# Altium schematic symbol library BasicEle.SchLib: 54 symbols
Pins are listed as number, name and electrical type; pins without a type are passive.

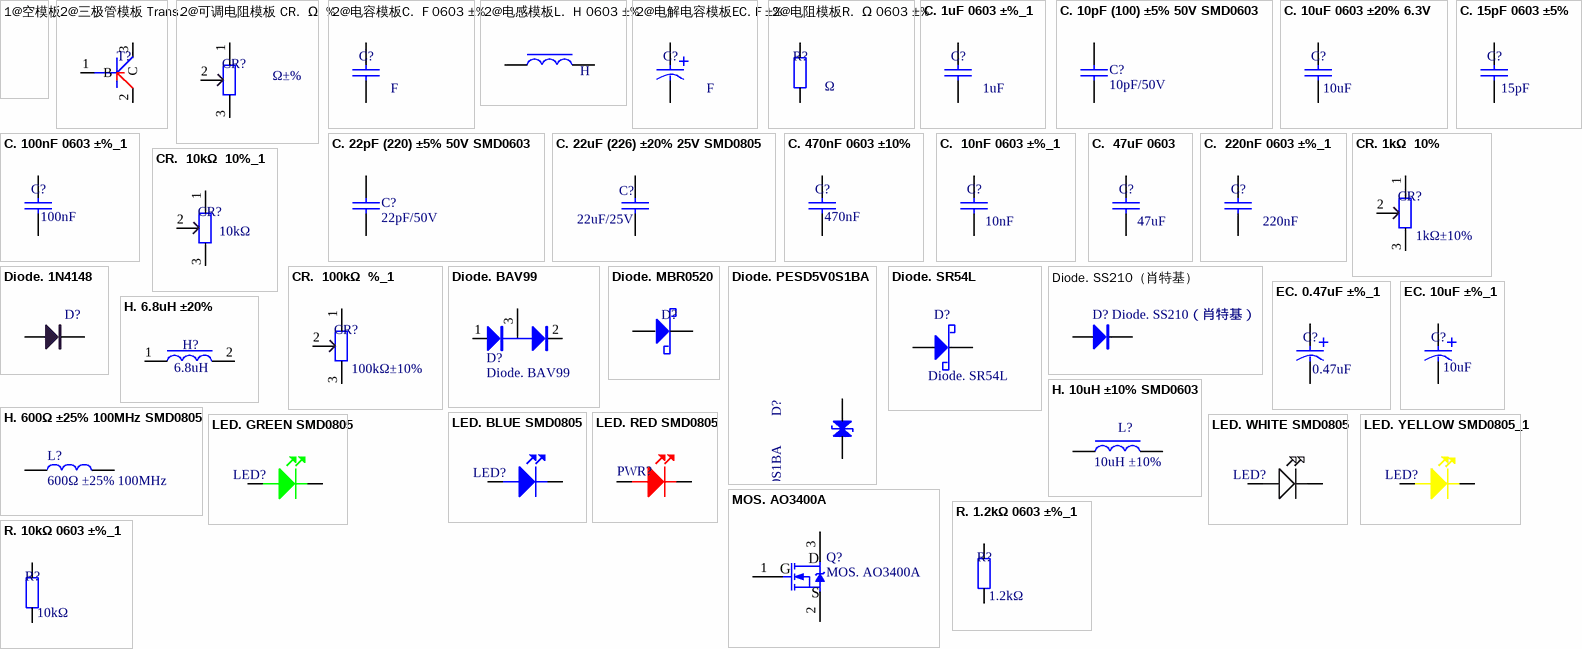
[diagram p0: symbols 1@空模板 to R. 10kΩ 0603 ±%_1]

## 1@空模板
designator ?  (value not drawn)
A.元件编号: *; B.元件名称: *; C.元件类型: *; D.元件型号: *; E.封装规格: *; F.阻值(Ω)/容值(μF): *; G.电压: *; H.精度: *; I.焊盘数量: *; J.品牌产地: *; 单价/元: *; 原创: *; 备注: *

## 2@三极管模板 Trans.
designator T?, comment Trans.  (value not drawn)
A.元件编号: *; B.元件名称: *; C.元件类型: *; D.元件型号: *; E.封装规格: *; F.阻值(Ω)/容值(μF): *; G.电压: *; H.精度: *; I.焊盘数量: *; J.品牌产地: *; 单价/元: *; 原创: *; 备注: *
pins: 1 B, 2 E, 3 C

## 2@可调电阻模板 CR.  Ω  %
designator CR?  value Ω±%  (hidden comment: 2@可调电阻模板 CR.  Ω  %)
A.元件编号: *; B.元件名称: *; C.元件类型: *; D.元件型号: *; E.封装规格: *; F.阻值(Ω)/容值(μF): *; G.电压: *; H.精度: *; I.焊盘数量: *; J.品牌产地: *; 单价/元: *; 原创: *; 备注: *
pins: 1, 2, 3

## 2@电容模板C.  F 0603 ±%
designator C?, comment value F  (hidden comment: 2@电容模板 F 0603 ±%)
A.元件编号: *; B.元件名称: *; C.元件类型: *; D.元件型号: *; E.封装规格: *; F.阻值(Ω)/容值(μF): *; G.电压: *; H.精度: *; I.焊盘数量: *; J.品牌产地: *; 单价/元: *; 原创: *; 备注: *
footprint C 0603
pins: 1, 2

## 2@电感模板L.  H 0603 ±%
designator ?  value H
A.元件编号: *; B.元件名称: *; C.元件类型: *; D.元件型号: *; E.封装规格: *; F.阻值(Ω)/容值(μF): *; G.电压: *; H.精度: *; I.焊盘数量: *; J.品牌产地: *; 单价/元: *; 原创: *; 备注: *
footprint L 0603
pins: 1, 2

## 2@电解电容模板EC. F ±%
designator C?, comment value F  (hidden comment: 2@电解电容模板 F ±%)
A.元件编号: *; B.元件名称: *; C.元件类型: *; D.元件型号: *; E.封装规格: *; F.阻值(Ω)/容值(μF): *; G.电压: *; H.精度: *; I.焊盘数量: *; J.品牌产地: *; 单价/元: *; 原创: *; 备注: *
footprint SMD 4x5.3mm 0.47uf
footprint SMD 4x5.7mm 10uf
pins: 1, 2

## 2@电阻模板R.  Ω 0603 ±%
designator R?  value Ω
A.元件编号: *; B.元件名称: *; C.元件类型: *; D.元件型号: *; E.封装规格: *; F.阻值(Ω)/容值(μF): *; G.电压: *; H.精度: *; I.焊盘数量: *; J.品牌产地: *; 单价/元: *; 原创: *; 备注: *
footprint R 0603
pins: 1, 2

## C. 1uF 0603 ±%_1
designator C?  value 1uF  (hidden comment: C. 1uF 0603 ±%_1)
A.元件编号: *; B.元件名称: *; C.元件类型: *; D.元件型号: *; E.封装规格: *; F.阻值(Ω)/容值(μF): *; G.电压: *; H.精度: *; I.焊盘数量: *; J.品牌产地: *; 单价/元: *; 原创: *; 备注: *
footprint C 0603
pins: 1, 2

## C. 10pF (100) ±5% 50V SMD0603
designator C?  value 10pF/50V  (hidden comment: C. 10pF (100) ±5% 50V SMD0603)
贴片电容，10pF/50V，±5%，SMD0603，SAMSUNG(三星)，CL10C100JB8NNNC; A.元件编号: C1634; C.元件类别: 贴片电容; E.封装规格: 0603; F.阻值(Ω)/容值(uF): 0.0000100000; G.电压: 50.00; I.焊盘数量: 2; 备注: 立创可贴片元器件; 单价/元（大批量）: 0.0066; B.元件名称: 10pF (100) ±5% 50V; D.元件型号: CL10C100JB8NNNC; H.精度: ±5%; J.品牌产地: SAMSUNG(三星)
footprint C 0603 (无极性贴片电容)
pins: 1, 2

## C. 10uF 0603 ±20% 6.3V
designator C?  value 10uF  (hidden comment: C. 10uF 0603 ±20% 6.3V)
A.元件编号: *; B.元件名称: *; C.元件类型: *; D.元件型号: *; E.封装规格: *; F.阻值(Ω)/容值(μF): *; G.电压: *; H.精度: *; I.焊盘数量: *; J.品牌产地: *; 单价/元: *; 原创: *; 备注: *
footprint C 0603
pins: 1, 2

## C. 15pF 0603 ±5%
designator C?  value 15pF  (hidden comment: C. 15pF 0603 ±5%)
A.元件编号: *; B.元件名称: *; C.元件类型: *; D.元件型号: *; E.封装规格: *; F.阻值(Ω)/容值(μF): *; G.电压: *; H.精度: *; I.焊盘数量: *; J.品牌产地: *; 单价/元: *; 原创: *; 备注: *
footprint C 0603
pins: 1, 2

## C. 22pF (220) ±5% 50V SMD0603
designator C?  value 22pF/50V  (hidden comment: C. 22pF (220) ±5% 50V SMD0603)
贴片电容，22pF/50V，±5%，SMD0603，SAMSUNG(三星)，CL10C220JB8NNNC; A.元件编号: C1653; C.元件类别: 贴片电容; E.封装规格: 0603; F.阻值(Ω)/容值(uF): 0.0000220000; G.电压: 50.00; I.焊盘数量: 2; 备注: 立创可贴片元器件; 单价/元（大批量）: 0.0067; B.元件名称: 22pF (220) ±5% 50V; D.元件型号: CL10C220JB8NNNC; H.精度: ±5%; J.品牌产地: SAMSUNG(三星)
footprint C 0603 (无极性贴片电容)
pins: 1, 2

## C. 22uF (226) ±20% 25V SMD0805
designator C?  value 22uF/25V  (hidden comment: C. 22uF (226) ±20% 25V SMD0805)
贴片电容，22uF/25V，±20%，SMD0805，SAMSUNG(三星)，CL21A226MAQNNNE; A.元件编号: C45783; C.元件类别: 贴片电容; E.封装规格: 0805; F.阻值(Ω)/容值(uF): 22.0000000000; G.电压: 25.00; I.焊盘数量: 2; 备注: 立创可贴片元器件; 单价/元（大批量）: 0.134; B.元件名称: 22uF (226) ±20% 25V; D.元件型号: CL21A226MAQNNNE; H.精度: ±20%; J.品牌产地: SAMSUNG(三星)
footprint C 0805 (无极性贴片电容)
pins: 1, 2

## C. 100nF 0603 ±%_1
designator C?, comment value 100nF  (hidden comment: 100nF 0603 ±%_1)
A.元件编号: *; B.元件名称: *; C.元件类型: *; D.元件型号: *; E.封装规格: *; F.阻值(Ω)/容值(μF): *; G.电压: *; H.精度: *; I.焊盘数量: *; J.品牌产地: *; 单价/元: *; 原创: *; 备注: *
footprint C 0603
pins: 1, 2

## C. 470nF 0603 ±10%
designator C?  value 470nF  (hidden comment: C. 470nF 0603 ±10%)
16V; A.元件编号: *; B.元件名称: *; C.元件类型: *; D.元件型号: *; E.封装规格: *; F.阻值(Ω)/容值(μF): *; G.电压: *; H.精度: *; I.焊盘数量: *; J.品牌产地: *; 单价/元: *; 原创: *; 备注: *
footprint C 0603
pins: 1, 2

## C.  10nF 0603 ±%_1
designator C?  value 10nF  (hidden comment: C.  10nF 0603 ±%_1)
A.元件编号: *; B.元件名称: *; C.元件类型: *; D.元件型号: *; E.封装规格: *; F.阻值(Ω)/容值(μF): *; G.电压: *; H.精度: *; I.焊盘数量: *; J.品牌产地: *; 单价/元: *; 原创: *; 备注: *
footprint C 0603
pins: 1, 2

## C.  47uF 0603
designator C?  value 47uF  (hidden comment: C.  47uF 0603)
A.元件编号: *; B.元件名称: *; C.元件类型: *; D.元件型号: *; E.封装规格: *; F.阻值(Ω)/容值(μF): *; G.电压: *; H.精度: *; I.焊盘数量: *; J.品牌产地: *; 单价/元: *; 原创: *; 备注: *
footprint C 0603
pins: 1, 2

## C.  220nF 0603 ±%_1
designator C?  value 220nF  (hidden comment: C.  220nF 0603 ±%_1)
A.元件编号: *; B.元件名称: *; C.元件类型: *; D.元件型号: *; E.封装规格: *; F.阻值(Ω)/容值(μF): *; G.电压: *; H.精度: *; I.焊盘数量: *; J.品牌产地: *; 单价/元: *; 原创: *; 备注: *
footprint C 0603
pins: 1, 2

## CR. 1kΩ  10%
designator CR?  value 1kΩ±10%  (hidden comment: CR. 1kΩ  10%)
A.元件编号: *; B.元件名称: *; C.元件类型: *; D.元件型号: *; E.封装规格: *; F.阻值(Ω)/容值(μF): *; G.电压: *; H.精度: *; I.焊盘数量: *; J.品牌产地: *; 单价/元: *; 原创: *; 备注: *
footprint 3362P (十字拍电位器)
pins: 1, 2, 3

## CR.  10kΩ  10%_1
designator CR?  value 10kΩ  (hidden comment: CR.  10kΩ  10%_1)
A.元件编号: *; B.元件名称: *; C.元件类型: *; D.元件型号: *; E.封装规格: *; F.阻值(Ω)/容值(μF): *; G.电压: *; H.精度: *; I.焊盘数量: *; J.品牌产地: *; 单价/元: *; 原创: *; 备注: https://item.taobao.com/item.htm?spm=a230r.1.14.26.460438aeu13KEl&id=573522301392&ns=1&abbucket=15#detail
footprint 3362P (十字拍电位器)
footprint 10k可变电阻 (红外模块专用)
pins: 1, 2, 3

## CR.  100kΩ  %_1
designator CR?  value 100kΩ±10%  (hidden comment: CR.  100kΩ  %_1)
A.元件编号: *; B.元件名称: *; C.元件类型: *; D.元件型号: *; E.封装规格: *; F.阻值(Ω)/容值(μF): *; G.电压: *; H.精度: *; I.焊盘数量: *; J.品牌产地: *; 单价/元: *; 原创: *; 备注: *
footprint 3362P (十字拍电位器)
pins: 1, 2, 3

## Diode. 1N4148
designator D?
C.元件类别: 二极管; I.焊盘数量: 2; F.阻值(Ω)/容值(uF): *; Value: *; H.精度: *
footprint SOD-123 (1N4148W)
pins: 1 A, 2 K

## Diode. BAV99
designator D?
开关二极管，BAV99，SOT-23-3，NXP(恩智浦)，BAV99; A.元件编号: C2500; C.元件类别: 开关二极管; 备注: 立创可贴片元器件; I.焊盘数量: 3; B.元件名称: BAV99 A7W; 单价/元（大批量）: 0.037; D.元件型号: BAV99; F.阻值(Ω)/容值(uF): *; Value: *; E.封装规格: SOT-23-3; J.品牌产地: NXP(恩智浦); H.精度: *; G.电压: *
footprint SOT23-3N (3x1.3x1mm(长宽高))
pins: 1, 2, 3

## Diode. MBR0520
designator D?  (value not drawn)
肖特基二极管0.5A 20V; A.元件编号: *; B.元件名称: *; C.元件类型: *; D.元件型号: *; E.封装规格: *; F.阻值(Ω)/容值(μF): *; G.电压: *; H.精度: *; I.焊盘数量: *; J.品牌产地: *; 单价/元: *; 原创: *; 备注: *
footprint SOD-123 (1N4148W)
pins: 1 A, 2 K

## Diode. PESD5V0S1BA
designator D?
TVS二极管， PESD5V0S1BA， 5V ， 台湾元基，  PESD5V0S1BA; A.元件编号: C330094; C.元件类别: TVS二极管; 备注: 非立创元器件; I.焊盘数量: 2; E.封装规格: SOD-323; J.品牌产地: 台湾元基; 单价/元（大批量）: 0.09; 原创: SZ-BMQ(Copyright © 2015-2016 SZ-BMQ. All rights reserved.); D.元件型号: PESD5V0S1BA; F.阻值(Ω)/容值(uF): *; Value: *; B.元件名称: PESD5V0S1BA; H.精度: *; G.电压: 5V
footprint SOD-323
pins: 1 A, 2 K

## Diode. SR54L
designator D?
肖特基二极管，SR54L，40V/5A，SMB(DO-214AA)， MOSPEC(统懋); A.元件编号: C139019; C.元件类别: 肖特基二极管; 备注: 立创非可贴片元器件; I.焊盘数量: 2; B.元件名称: SR54L 编带; 单价/元（大批量）: 1.07; G.电压: VR=40V IO=5A VF=0.44V@5; 原创: SZ-BMQ(Copyright © 2015-2016 SZ-BMQ. All rights reserved.); D.元件型号: SR54L; F.阻值(Ω)/容值(uF): *; Value: *; E.封装规格: SMB(DO-214AA); J.品牌产地: MOSPEC(统懋); H.精度: *
footprint SMB(DO-214AA)_S2
pins: 1 A, 2 K

## Diode. SS210（肖特基）
designator D?
肖特基二极管，SS210，100V/2A，SMA(DO-214AC)，星海，SS210; A.元件编号: C14996; D.元件型号: SS210; C.元件类别: 二极管; 备注: 立创可贴片元器件; I.焊盘数量: 2; J.品牌产地: MMD; 单价/元（大批量）: 0.0895; G.电压: 100V，2A，VF=0.85V@2A; F.阻值(Ω)/容值(uF): *; Value: *; B.元件名称: SS210; E.封装规格: SMA(DO-214AC); H.精度: *
footprint SMA
pins: 1 A, 2 K

## EC. 0.47uF ±%_1
designator C?, comment value 0.47uF  (hidden comment: ec 0.47uF ±%_1)
A.元件编号: *; B.元件名称: *; C.元件类型: *; D.元件型号: *; E.封装规格: *; F.阻值(Ω)/容值(μF): *; G.电压: *; H.精度: *; I.焊盘数量: *; J.品牌产地: *; 单价/元: *; 原创: *; 备注: *
footprint SMD 4x5.3mm 0.47uf
pins: 1, 2

## EC. 10uF ±%_1
designator C?, comment value 10uF  (hidden comment: ec 10uF)
A.元件编号: *; B.元件名称: *; C.元件类型: *; D.元件型号: *; E.封装规格: *; F.阻值(Ω)/容值(μF): *; G.电压: *; H.精度: *; I.焊盘数量: *; J.品牌产地: *; 单价/元: *; 原创: *; 备注: *
footprint SMD 4x5.7mm 10uf
pins: 1, 2

## H. 6.8uH ±20%
designator H?  value 6.8uH  (hidden comment: H. 6.8uH ±20%)
功率电感; A.元件编号: *; B.元件名称: *; C.元件类型: *; D.元件型号: *; E.封装规格: *; F.阻值(Ω)/容值(μF): *; G.电压: *; H.精度: *; I.焊盘数量: *; J.品牌产地: *; 单价/元: *; 原创: *; 备注: *
footprint SMD,2.5x2x1.05mm (功率电感)
pins: 1, 2

## H. 10uH ±10% SMD0603
designator L?, comment value 10uH ±10%  (hidden comment: 0uH ±10%)
贴片电感，10uH，±10%，SMD0603，Sunlord(顺络)，SDFL1608S100KTF; A.元件编号: C1035; C.元件类别: 贴片电感; E.封装规格: 0603; F.阻值(Ω)/容值(uF): 10.0000000000; I.焊盘数量: 2; 备注: 立创可贴片元器件; 单价/元（大批量）: 0.038; B.元件名称: 10uH ±10%; D.元件型号: SDFL1608S100KTF; H.精度: ±10%; J.品牌产地: Sunlord(顺络)
footprint L 0603 (小功率贴片电感)
pins: 1, 2

## H. 600Ω ±25% 100MHz SMD0805
designator L?  value 600Ω ±25% 100MHz  (hidden comment: H. 600Ω ±25% 100MHz SMD0805)
贴片磁珠，600Ω，±25%，100MHz，SMD0805，Sunlord(顺络)，GZ2012D601TF; A.元件编号: C1017; C.元件类别: 贴片磁珠; E.封装规格: 0805; F.阻值(Ω)/容值(uF): 600.0000000000; I.焊盘数量: 2; 备注: 立创可贴片元器件; 单价/元（大批量）: 0.0314; B.元件名称: 600Ω ±25% 100MHz; D.元件型号: GZ2012D601TF; H.精度: ±25%; J.品牌产地: Sunlord(顺络)
footprint L 0805
pins: 1, 2

## LED. BLUE SMD0805
designator LED?  (value not drawn)
蓝色发光二极管，SMD0805，国星光电，FC-A2012BK-470H2; A.元件编号: C84259; 备注: 立创可贴片元器件; B.元件名称: 蓝灯 贴片LED (20-55mcd) 编带; C.元件类别: 发光二极管; E.封装规格: 0805; I.焊盘数量: 2; J.品牌产地: 国星光电; Value: *; F.阻值(Ω)/容值(uF): blue; G.电压: *; H.精度: *
footprint LED 0805B
pins: 1 A, 2 K

## LED. GREEN SMD0805
designator LED?  (value not drawn)
翠绿发光二极管 ，SMD0805，国产，0805G (翠绿); A.元件编号: C63855; 备注: 立创可贴片元器件; C.元件类别: 发光二极管; E.封装规格: 0805; I.焊盘数量: 2; J.品牌产地: 国产; B.元件名称: 翠绿; D.元件型号: 0805G (翠绿); F.阻值(Ω)/容值(uF): green; G.电压: *; H.精度: *; Value: *
footprint LED 0805G
pins: 1 A, 2 K

## LED. RED SMD0805
designator PWR?  (value not drawn)
红色发光二极管，SMD0805，国星光电 ，FC-2012HRK-620D; A.元件编号: C84256; 备注: 立创可贴片元器件; B.元件名称: 红灯 贴片LED (80-180mcd) 编带; C.元件类别: 发光二极管; E.封装规格: 0805（红色）; I.焊盘数量: 2; F.阻值(Ω)/容值(uF): red; G.电压: *; H.精度: *; Value: *
footprint LED 0805R
pins: 1 A, 2 K

## LED. WHITE SMD0805
designator LED?  (value not drawn)
白色发光二极管，SMD0805; A.元件编号: C110099; 备注: 立创可贴片元器件; B.元件名称: 白灯 贴片LED (20-55mcd) 编带; C.元件类别: 发光二极管; E.封装规格: 0805; I.焊盘数量: 2; Value: *; F.阻值(Ω)/容值(uF): White; G.电压: *; H.精度: *
footprint LED 0805B
pins: 1 A, 2 K

## LED. YELLOW SMD0805_1
designator LED?, comment LED. YELLOW SMD0805  (value not drawn)
黄色发光二极管 ，SMD0805，国产，0805G (翠绿); A.元件编号: C84261; 备注: 立创可贴片元器件; B.元件名称: 黄; C.元件类别: 发光二极管; D.元件型号: 0805G (黄); E.封装规格: 0805; I.焊盘数量: 2; J.品牌产地: 国产; 单价/元（大批量）: 0.052; F.阻值(Ω)/容值(uF): YELLOW; G.电压: *; H.精度: *; Value: *
footprint LED 0805Y
pins: 1 A, 2 K

## MOS. AO3400A
designator Q?
N沟道场效应管，AO3400A，N沟道，30V，5.7A，26.5mΩ@10V，SOT-23-3L，AOS，AO3400A; A.元件编号: C20917; C.元件类别: MOS(场效应管); 备注: 立创可贴片元器件; I.焊盘数量: 4; B.元件名称: AO3400A N沟道 X0YV1T SOT-23; J.品牌产地: AOS; 单价/元（大批量）: 0.322; D.元件型号: AO3400A; F.阻值(Ω)/容值(uF): *; Value: *; E.封装规格: SOT-23-3L; H.精度: *; G.电压: *
footprint SOT23-3L
pins: 1 G, 2 S, 3 D

## R. 1.2kΩ 0603 ±%_1
designator R?, comment 1.2kΩ
A.元件编号: *; B.元件名称: *; C.元件类型: *; D.元件型号: *; E.封装规格: *; F.阻值(Ω)/容值(μF): *; G.电压: *; H.精度: *; I.焊盘数量: *; J.品牌产地: *; 单价/元: *; 原创: *; 备注: *; Value: 1.2kΩ
footprint R 0603
pins: 1, 2

## R. 10kΩ 0603 ±%_1
designator R?, comment 10kΩ
A.元件编号: C15401; B.元件名称: *; C.元件类型: *; D.元件型号: *; E.封装规格: *; F.阻值(Ω)/容值(μF): *; G.电压: *; H.精度: *; I.焊盘数量: *; J.品牌产地: *; 单价/元: *; 原创: *; 备注: *; Value: 10kΩ
footprint R 0603
pins: 1, 2

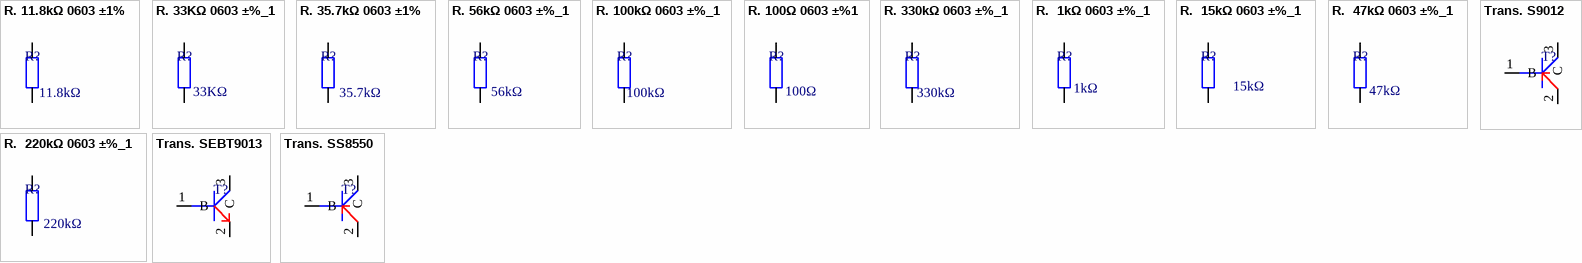
[diagram p1: symbols R. 11.8kΩ 0603 ±1% to Trans. SS8550]

## R. 11.8kΩ 0603 ±1%
designator R?  value 11.8kΩ
A.元件编号: *; B.元件名称: *; C.元件类型: *; D.元件型号: *; E.封装规格: *; F.阻值(Ω)/容值(μF): *; G.电压: *; H.精度: *; I.焊盘数量: *; J.品牌产地: *; 单价/元: *; 原创: *; 备注: *
footprint R 0603
pins: 1, 2

## R. 33KΩ 0603 ±%_1
designator R?, comment 33KΩ
A.元件编号: C4216; B.元件名称: *; C.元件类型: *; D.元件型号: *; E.封装规格: *; F.阻值(Ω)/容值(μF): *; G.电压: *; H.精度: *; I.焊盘数量: *; J.品牌产地: *; 单价/元: *; 原创: *; 备注: *; Value: 33KΩ
footprint R 0603
pins: 1, 2

## R. 35.7kΩ 0603 ±1%
designator R?  value 35.7kΩ
A.元件编号: *; B.元件名称: *; C.元件类型: *; D.元件型号: *; E.封装规格: *; F.阻值(Ω)/容值(μF): *; G.电压: *; H.精度: *; I.焊盘数量: *; J.品牌产地: *; 单价/元: *; 原创: *; 备注: *
footprint R 0603
pins: 1, 2

## R. 56kΩ 0603 ±%_1
designator R?  value 56kΩ
A.元件编号: *; B.元件名称: *; C.元件类型: *; D.元件型号: *; E.封装规格: *; F.阻值(Ω)/容值(μF): *; G.电压: *; H.精度: *; I.焊盘数量: *; J.品牌产地: *; 单价/元: *; 原创: *; 备注: *
footprint R 0603
pins: 1, 2

## R. 100kΩ 0603 ±%_1
designator R?, comment 100kΩ
A.元件编号: *; B.元件名称: *; C.元件类型: *; D.元件型号: *; E.封装规格: *; F.阻值(Ω)/容值(μF): *; G.电压: *; H.精度: *; I.焊盘数量: *; J.品牌产地: *; 单价/元: *; 原创: *; 备注: *; Value: 100kΩ
footprint R 0603
pins: 1, 2

## R. 100Ω 0603 ±%1
designator R?, comment 100Ω
A.元件编号: C22775; B.元件名称: *; C.元件类型: *; D.元件型号: *; E.封装规格: *; F.阻值(Ω)/容值(μF): *; G.电压: *; H.精度: *; I.焊盘数量: *; J.品牌产地: *; 单价/元: *; 原创: *; 备注: *; Value: 100Ω
footprint R 0603
pins: 1, 2

## R. 330kΩ 0603 ±%_1
designator R?  value 330kΩ
A.元件编号: *; B.元件名称: *; C.元件类型: *; D.元件型号: *; E.封装规格: *; F.阻值(Ω)/容值(μF): *; G.电压: *; H.精度: *; I.焊盘数量: *; J.品牌产地: *; 单价/元: *; 原创: *; 备注: *
footprint R 0603
pins: 1, 2

## R.  1kΩ 0603 ±%_1
designator R?, comment 1kΩ
A.元件编号: C25585; B.元件名称: *; C.元件类型: *; D.元件型号: *; E.封装规格: *; F.阻值(Ω)/容值(μF): *; G.电压: *; H.精度: *; I.焊盘数量: *; J.品牌产地: *; 单价/元: *; 原创: *; 备注: *; Value: 1kΩ
footprint R 0603
pins: 1, 2

## R.  15kΩ 0603 ±%_1
designator R?  value 15kΩ
A.元件编号: *; B.元件名称: *; C.元件类型: *; D.元件型号: *; E.封装规格: *; F.阻值(Ω)/容值(μF): *; G.电压: *; H.精度: *; I.焊盘数量: *; J.品牌产地: *; 单价/元: *; 原创: *; 备注: *
footprint R 0603
pins: 1, 2

## R.  47kΩ 0603 ±%_1
designator R?  value 47kΩ
A.元件编号: *; B.元件名称: *; C.元件类型: *; D.元件型号: *; E.封装规格: *; F.阻值(Ω)/容值(μF): *; G.电压: *; H.精度: *; I.焊盘数量: *; J.品牌产地: *; 单价/元: *; 原创: *; 备注: *
footprint R 0603
pins: 1, 2

## R.  220kΩ 0603 ±%_1
designator R?  value 220kΩ
A.元件编号: *; B.元件名称: *; C.元件类型: *; D.元件型号: *; E.封装规格: *; F.阻值(Ω)/容值(μF): *; G.电压: *; H.精度: *; I.焊盘数量: *; J.品牌产地: *; 单价/元: *; 原创: *; 备注: *
footprint R 0603
pins: 1, 2

## Trans. S9012
designator T?  (value not drawn)
PNP 25V 500mA; A.元件编号: *; B.元件名称: *; C.元件类型: *; D.元件型号: *; E.封装规格: *; F.阻值(Ω)/容值(μF): *; G.电压: *; H.精度: *; I.焊盘数量: *; J.品牌产地: *; 单价/元: *; 原创: *; 备注: *
footprint SOT23-3
pins: 1 B, 2 E, 3 C

## Trans. SEBT9013
designator T?  (value not drawn)
NPN三级管 G=400,VCB=40V,VCE=25V,VEB=5V,IC=500MA; A.元件编号: *; B.元件名称: *; C.元件类型: *; D.元件型号: *; E.封装规格: *; F.阻值(Ω)/容值(μF): *; G.电压: *; H.精度: *; I.焊盘数量: *; J.品牌产地: *; 单价/元: *; 原创: *; 备注: *
footprint SOT23-3
pins: 1 B, 2 E, 3 C

## Trans. SS8550
designator T?, comment Trans. 8550  (value not drawn)
PNP 25V 1.5A; A.元件编号: *; B.元件名称: *; C.元件类型: *; D.元件型号: *; E.封装规格: *; F.阻值(Ω)/容值(μF): *; G.电压: *; H.精度: *; I.焊盘数量: *; J.品牌产地: *; 单价/元: *; 原创: *; 备注: *
footprint SOT23-3
pins: 1 B, 2 E, 3 C